# EAGLE library part TQFP32-DC (library STEMTera)
AMKOR TQFP32 7mm Body 0.8mm pitch
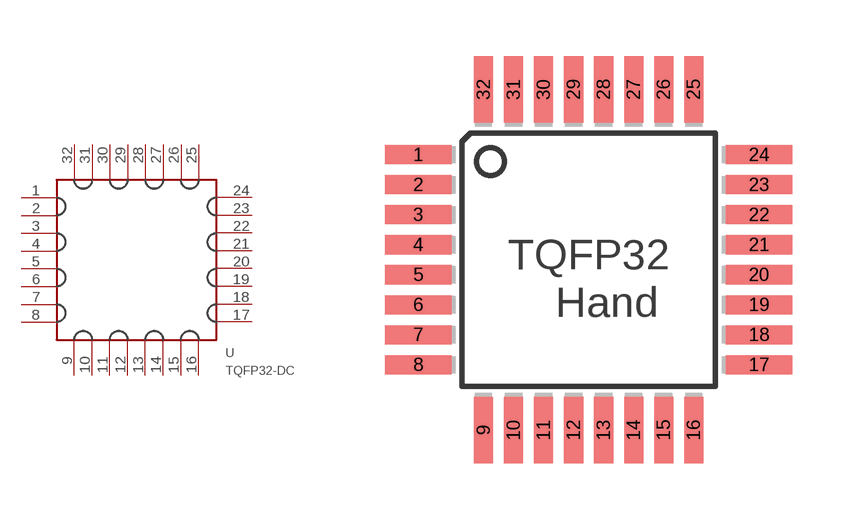
[diagram p6: symbol with the pads of TQFP32-7MM_0.8MM_HAND_SOLDER; footprint TQFP32-7MM_0.8MM_HAND_SOLDER]

Designator prefix -

## TQFP32-DC  [TQFP32-7MM_0.8MM_HAND_SOLDER]
1  1
2  2
3  3
4  4
5  5
6  6
7  7
8  8
9  9
10  10
11  11
12  12
13  13
14  14
15  15
16  16
17  17
18  18
19  19
20  20
21  21
22  22
23  23
24  24
25  25
26  26
27  27
28  28
29  29
30  30
31  31
32  32

## Footprint TQFP32-7MM_0.8MM_HAND_SOLDER (pad centres in mm)
TQFP32 7mmx7mm 0.8mm Pitch Hand Solder
smd 1.77 x 0.508: 1 -4.543,2.8; 2 -4.543,2; 3 -4.543,1.2; 4 -4.543,0.4; 5 -4.543,-0.4; 6 -4.543,-1.2; 7 -4.543,-2; 8 -4.543,-2.8; 17 4.543,-2.8; 18 4.543,-2; 19 4.543,-1.2; 20 4.543,-0.4; 21 4.543,0.4; 22 4.543,1.2; 23 4.543,2; 24 4.543,2.8
smd 0.508 x 1.77: 9 -2.8,-4.543; 10 -2,-4.543; 11 -1.2,-4.543; 12 -0.4,-4.543; 13 0.4,-4.543; 14 1.2,-4.543; 15 2,-4.543; 16 2.8,-4.543; 25 2.8,4.543; 26 2,4.543; 27 1.2,4.543; 28 0.4,4.543; 29 -0.4,4.543; 30 -1.2,4.543; 31 -2,4.543; 32 -2.8,4.543